# Altium integrated library Custom.IntLib: 1 symbol
Pins are listed as number, name and electrical type; pins without a type are passive.

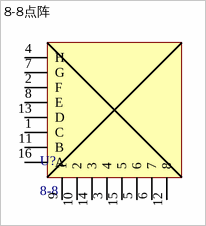
[diagram p0: symbol 8-8点阵]

## 8-8点阵
designator U?, comment 8-8
8-8: RAD
pins: 1 C, 2 F, 3 4, 4 H, 5 6, 6 7, 7 G, 8 E, 9 1, 10 2, 11 B, 12 8, 13 D, 14 3, 15 5, 16 A